# Altium schematic symbol library R-CRCW12061K20JNEA.Schlib: 1 symbol
Pins are listed as number, name and electrical type; pins without a type are passive.

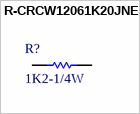
[diagram p0: symbol R-CRCW12061K20JNEA]

## R-CRCW12061K20JNEA
designator R?, comment 1K2-1/4W
Thick Film Resistors - SMD 1/4watt 1.2Kohms 5%
pins: 1, 2